# EAGLE library part MIC2176-1YMM (library ruark2)
Buck Regulator Positive Output Step-Down DC-DC Controller IC 10-MSOP 4.5-65V Synchronous
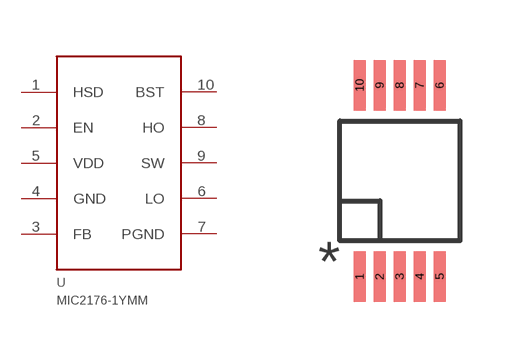
[diagram p73: symbol with the pads of MSOP10; footprint MSOP10]

Designator prefix U

## MIC2176-1YMM (PARTNO: 576-3756-5-ND)  [MSOP10]
1  HSD
2  EN
3  FB
4  GND
5  VDD
6  LO
7  PGND
8  HO
9  SW
10  BST

## Footprint MSOP10 (pad centres in mm)
smd 0.3 x 1.27: 1 -1,-2.395; 2 -0.5,-2.395; 3 0,-2.395; 4 0.5,-2.395; 5 1,-2.395; 6 1,2.395; 7 0.5,2.395; 8 0,2.395; 9 -0.5,2.395; 10 -1,2.395